# EAGLE library part PMN20EN (library transistor-fet)
Dual N-Channel MOSFET 30 V, 6.7 A N-channel Trench MOSFET
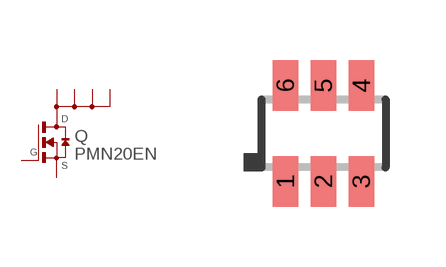
[diagram p20: symbol with the pads of SOT457; footprint SOT457]

Designator prefix Q

## PMN20EN  [SOT457]
1  D1  pas
2  D2  pas
3  G  pas
4  S  pas
5  D3  pas
6  D4  pas

## Footprint SOT457 (pad centres in mm)
SOT457 (TSOP6) pitch 0.95 mm
smd 0.635 x 1.27: 1 -0.95,-1.2; 2 0,-1.2; 3 0.95,-1.2; 4 0.95,1.2; 5 0,1.2; 6 -0.95,1.2